# Altium footprint library JUMMPER_NO_CIRCLE.PcbLib: 1 footprints
Each footprint in its own frame and in the unit in brackets; x right, y up, seen from the top. Pads: shape width x height; smd on the part's side, far side on the other; paste and mask are expansions set on the pad; w line width, h text height; cw(c..) or ccw(c..) is an arc to the next point about the centre after c.
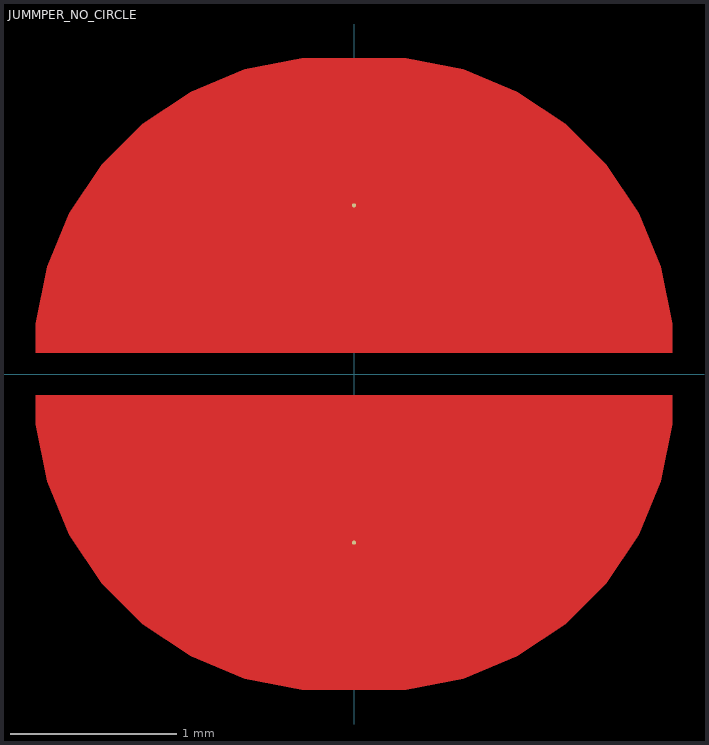
[diagram p0: the footprint, top view; thin cyan lines are the x and y axes]

## JUMMPER_NO_CIRCLE [mil]
pads (2):
  round 1 smd: 1(0,40) 2(0,-40)
Top Layer:
  region: -75.5,-5 75.5,-5 75.5,-11.89 72.81,-25.41 67.53,-38.14 59.88,-49.6 50.13,-59.35 38.67,-67 25.94,-72.28 12.42,-74.97 5.53,-74.97 -5.53,-74.97 -12.42,-74.97 -25.94,-72.28 -38.67,-67 -50.13,-59.35 -59.88,-49.6 -67.53,-38.14 -72.81,-25.41 -75.5,-11.89
  region: 75.5,5 -75.5,5 -75.5,11.89 -72.81,25.41 -67.53,38.14 -59.88,49.6 -50.13,59.35 -38.67,67 -25.94,72.28 -12.42,74.97 -5.53,74.97 5.53,74.97 12.42,74.97 25.94,72.28 38.67,67 50.13,59.35 59.88,49.6 67.53,38.14 72.81,25.41 75.5,11.89
  region: 0,10 -1.97,10 -5.87,10.51 -9.66,11.53 -13.3,13.04 -16.7,15 -19.82,17.4 -22.6,20.18 -25,23.3 -26.96,26.7 -28.47,30.34 -29.49,34.13 -30,38.03 -30,40 -30,41.97 -29.49,45.87 -28.47,49.66 -26.96,53.3 -25,56.7 -22.6,59.82 -19.82,62.6 -16.7,65 -13.3,66.96 -9.66,68.47 -5.87,69.49 -1.97,70 0,70 1.97,70 5.87,69.49 9.66,68.47 13.3,66.96 16.7,65 19.82,62.6 22.6,59.82 25,56.7 26.96,53.3 28.47,49.66 29.49,45.87 30,41.97 30,40 30,38.03 29.49,34.13 28.47,30.34 26.96,26.7 25,23.3 22.6,20.18 19.82,17.4 16.7,15 13.3,13.04 9.66,11.53 5.87,10.51 1.97,10
  region: 0,-70 -1.97,-70 -5.87,-69.49 -9.66,-68.47 -13.3,-66.96 -16.7,-65 -19.82,-62.6 -22.6,-59.82 -25,-56.7 -26.96,-53.3 -28.47,-49.66 -29.49,-45.87 -30,-41.97 -30,-40 -30,-38.03 -29.49,-34.13 -28.47,-30.34 -26.96,-26.7 -25,-23.3 -22.6,-20.18 -19.82,-17.4 -16.7,-15 -13.3,-13.04 -9.66,-11.53 -5.87,-10.51 -1.97,-10 0,-10 1.97,-10 5.87,-10.51 9.66,-11.53 13.3,-13.04 16.7,-15 19.82,-17.4 22.6,-20.18 25,-23.3 26.96,-26.7 28.47,-30.34 29.49,-34.13 30,-38.03 30,-40 30,-41.97 29.49,-45.87 28.47,-49.66 26.96,-53.3 25,-56.7 22.6,-59.82 19.82,-62.6 16.7,-65 13.3,-66.96 9.66,-68.47 5.87,-69.49 1.97,-70